# Altium schematic symbol library fuse-1A-250V.SchLib: 2 symbols
Pins are listed as number, name and electrical type; pins without a type are passive.

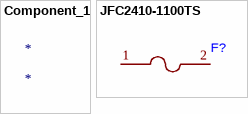
[diagram p0: symbols Component_1 to JFC2410-1100TS]

## Component_1
designator *

## JFC2410-1100TS
designator F?
footprint F2410
pins: 1, 2